# Altium schematic symbol library pressure-sensor.SchLib: 1 symbol
Pins are listed as number, name and electrical type; pins without a type are passive.

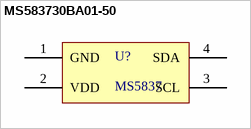
[diagram p0: symbol MS583730BA01-50]

## MS583730BA01-50
designator U?, comment MS5837
Manufacturer: TE Connectivity; Manufacturer Part Number: MS583730BA01-50; Supplier 1: Farnell; Stock 1: 723; Pricing 1: 1=28.45, 5=20.76, 10=18.74, 25=16.52, 50=15.21 (EUR); ComponentLink1URL: http://www.te.com/commerce/DocumentDelivery/DDEController?Action=srchrtrv&DocNm=MS5837-30BA&DocType=Data+Sheet&DocLang=English; ComponentLink1Description: http://www.te.com/commerce/DocumentDelivery/DDEController?Action=srchrtrv&DocNm=MS5837-30BA&DocType=Data+Sheet&DocLang=English
footprint MS5837
pins: 1 GND (oc), 2 VDD (oc), 3 SCL (oc), 4 SDA (oc)